# Altium footprint library SamacSys.PcbLib: 8 footprints
Each footprint in its own frame and in the unit in brackets; x right, y up, seen from the top. Pads: shape width x height; smd on the part's side, far side on the other; paste and mask are expansions set on the pad; w line width, h text height; cw(c..) or ccw(c..) is an arc to the next point about the centre after c.
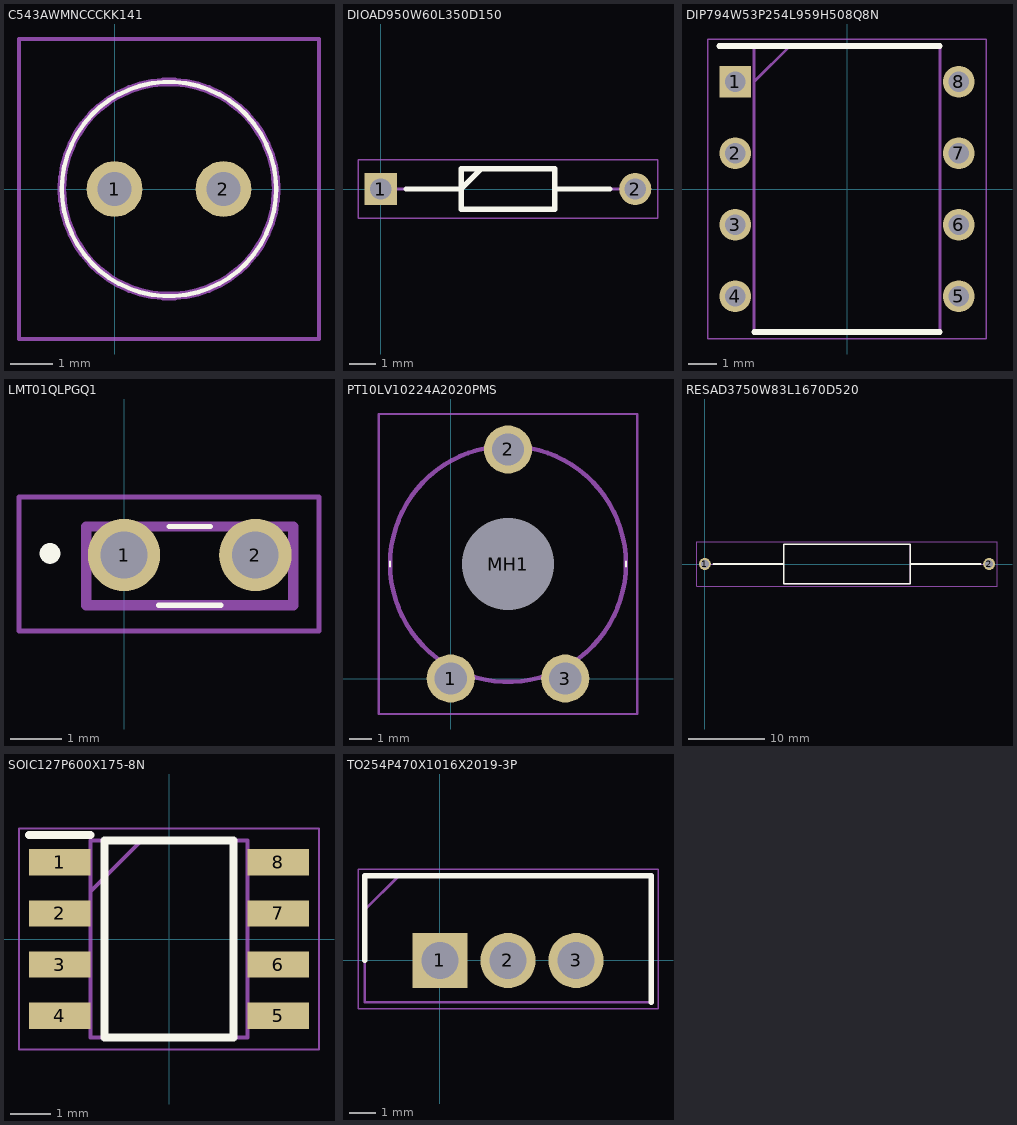
[diagram p0: the footprints below, top view; thin cyan lines are the x and y axes]

## C543AWMNCCCKK141 [mm]
pads (2):
  round 1.3 hole 0.8: 1(0,0) 2(2.54,0)
Top Overlay:
  lines w0.1: -1.23,0 ccw(c1.27,0) 3.77,0 ccw(c1.27,0) -1.23,0
Mechanical 13:
  lines w0.2: -1.23,0 ccw(c1.27,0) 3.77,0 ccw(c1.27,0) -1.23,0
Mechanical 15:
  lines w0.1: -2.23,-3.5 4.77,-3.5 4.77,3.5 -2.23,3.5 -2.23,-3.5
3D body "C543A-WMN-CCCKK141.stp": height 8.8, standoff -5, extent -1.23,-2.5 3.77,2.5

## DIOAD950W60L350D150 [mm]
pads (2):
  rect 1.2x1.2 hole 0.8: 1(0,0)
  round 1.2 hole 0.8: 2(9.5,0)
Top Overlay:
  lines w0.2: 0.95,0 3,0 3.75,0.75 ; 6.5,0 8.55,0 ; 3,-0.75 3,0.75 6.5,0.75 6.5,-0.75 3,-0.75
Mechanical 13:
  lines w0.1: 0,0 3,0 3.75,0.75 ; 6.5,0 9.5,0 ; 3,-0.75 3,0.75 6.5,0.75 6.5,-0.75 3,-0.75
Mechanical 15:
  lines w0.05: -0.85,-1.1 -0.85,1.1 10.35,1.1 10.35,-1.1 -0.85,-1.1
3D body "SD101A-TR.stp": height 1.69, standoff -1.7, extent -0.298,-0.848 9.8,0.848

## DIP794W53P254L959H508Q8N [mm]
pads (8):
  rect 1.13x1.13 hole 0.73: 1(-3.97,3.81)
  round 1.13 hole 0.73: 2(-3.97,1.27) 3(-3.97,-1.27) 4(-3.97,-3.81) 5(3.97,-3.81) 6(3.97,-1.27) 7(3.97,1.27) 8(3.97,3.81)
Top Overlay:
  lines w0.2: -4.535,5.08 3.3,5.08 ; -3.3,-5.08 3.3,-5.08
Mechanical 13:
  lines w0.1: -3.3,3.81 -2.03,5.08 ; -3.3,-5.08 -3.3,5.08 3.3,5.08 3.3,-5.08 -3.3,-5.08
Mechanical 15:
  lines w0.05: -4.945,-5.33 -4.945,5.33 4.945,5.33 4.945,-5.33 -4.945,-5.33
3D body "LM358P.stp": height 5.08, standoff -3.5, extent -4.102,-4.795 4.102,4.795

## LMT01QLPGQ1 [mm]
pads (2):
  round 1.4 hole 0.9: 1(0,-5.63) 2(2.54,-5.63)
Top Overlay:
  lines w0.1: 0.67,-6.6 1.87,-6.6 ; 0.87,-5.08 1.67,-5.08
  lines w0.2: -1.43,-5.7 cw(c-1.43,-5.6) -1.43,-5.5 cw(c-1.43,-5.6) -1.43,-5.7
Mechanical 13:
  lines w0.2: -0.73,-6.6 -0.73,-5.08 3.27,-5.08 3.27,-6.6 -0.73,-6.6
Mechanical 15:
  lines w0.1: -2.03,-7.1 -2.03,-4.507 3.77,-4.507 3.77,-7.1 -2.03,-7.1
3D body "TMP6131LPGM.stp": height 5.4, standoff -5, extent -0.73,-6.6 3.27,-5.08

## PT10LV10224A2020PMS [mm]
pads (4):
  round 2.1 hole 1.4: 1(0,0) 2(2.5,10) 3(5,0)
  round 2 hole 4 unplated: MH1(2.5,5)
Top Overlay:
  lines w0.1: -2.65,4.9 -2.65,5.1 ; 7.65,4.9 7.65,5.1
Mechanical 13:
  lines w0.2: -2.65,5 cw(c2.5,5) 7.65,5 cw(c2.5,5) -2.65,5
Mechanical 15:
  lines w0.1: -3.15,-1.55 -3.15,11.55 8.15,11.55 8.15,-1.55 -3.15,-1.55
3D body "PT10LV10-224A2020-PM-S.stp": height 4.9, standoff -5, extent -2.65,-0.599 7.65,10.599

## RESAD3750W83L1670D520 [mm]
pads (2):
  round 1.575 hole 1.05: 1(0,0) 2(37.5,0)
Top Overlay:
  lines w0.2: 1.138,0 10.4,0 ; 27.1,0 36.362,0 ; 10.4,-2.6 10.4,2.6 27.1,2.6 27.1,-2.6 10.4,-2.6
Mechanical 13:
  lines w0.1: 0,0 10.4,0 ; 27.1,0 37.5,0 ; 10.4,-2.6 10.4,2.6 27.1,2.6 27.1,-2.6 10.4,-2.6
Mechanical 15:
  lines w0.05: -1.038,-2.95 -1.038,2.95 38.537,2.95 38.537,-2.95 -1.038,-2.95
3D body "PR03000205100JAC00.stp": height 2.6, standoff -2.6, extent -19.75,-2.595 19.75,2.595

## SOIC127P600X175-8N [mm]
pads (8):
  rect 1.525x0.65 smd: 1(-2.712,1.905) 2(-2.712,0.635) 3(-2.712,-0.635) 4(-2.712,-1.905) 5(2.712,-1.905) 6(2.712,-0.635) 7(2.712,0.635) 8(2.712,1.905)
Top Overlay:
  lines w0.2: -3.475,2.58 -1.95,2.58 ; -1.6,-2.45 1.6,-2.45 1.6,2.45 -1.6,2.45 -1.6,-2.45
Mechanical 13:
  lines w0.1: -1.95,1.18 -0.68,2.45 ; -1.95,-2.45 1.95,-2.45 1.95,2.45 -1.95,2.45 -1.95,-2.45
Mechanical 15:
  lines w0.05: -3.725,-2.75 3.725,-2.75 3.725,2.75 -3.725,2.75 -3.725,-2.75
3D body "NE555DR.stp": height 1.75, standoff 0, extent -3,-2.45 3,2.45

## TO254P470X1016X2019-3P [mm]
pads (3):
  rect 2.055x2.055 hole 1.37: 1(0,0)
  round 2.055 hole 1.37: 2(2.535,0) 3(5.07,0)
Top Overlay:
  lines w0.2: -2.8,0 -2.8,3.15 7.87,3.15 7.87,-1.55
Mechanical 13:
  lines w0.1: -2.8,1.882 -1.532,3.15 ; -2.8,-1.55 -2.8,3.15 7.87,3.15 7.87,-1.55 -2.8,-1.55
Mechanical 15:
  lines w0.05: -3.05,-1.8 -3.05,3.4 8.12,3.4 8.12,-1.8 -3.05,-1.8
3D body "NTP095N65S3HF.stp": height 18.54, standoff -17.53, extent -2.545,-1.55 7.615,3.15